# EAGLE library part 74HC4053D (library tigorcustom)
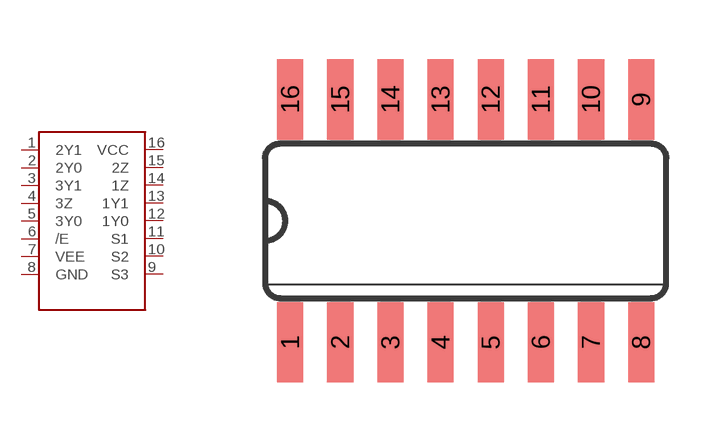
[diagram p2: symbol with the pads of SO16; footprint SO16]

Designator prefix -

## 74HC4053D  [SO16]
1  2Y1
2  2Y0
3  3Y1
4  3Z
5  3Y0
6  /E
7  VEE
8  GND
9  S3
10  S2
11  S1
12  1Y0
13  1Y1
14  1Z
15  2Z
16  VCC

## Footprint SO16 (pad centres in mm)
Small Outline package 150 mil
smd 0.66 x 2.032: 1 -4.445,-3.073; 2 -3.175,-3.073; 3 -1.905,-3.073; 4 -0.635,-3.073; 5 0.635,-3.073; 6 1.905,-3.073; 7 3.175,-3.073; 8 4.445,-3.073; 9 4.445,3.073; 10 3.175,3.073; 11 1.905,3.073; 12 0.635,3.073; 13 -0.635,3.073; 14 -1.905,3.073; 15 -3.175,3.073; 16 -4.445,3.073